# Altium footprint library PcbLib.PcbLib: 65 footprints (part 2 of 5)
Each footprint in its own frame and in the unit in brackets; x right, y up, seen from the top. Pads: shape width x height; smd on the part's side, far side on the other; paste and mask are expansions set on the pad; w line width, h text height; cw(c..) or ccw(c..) is an arc to the next point about the centre after c.
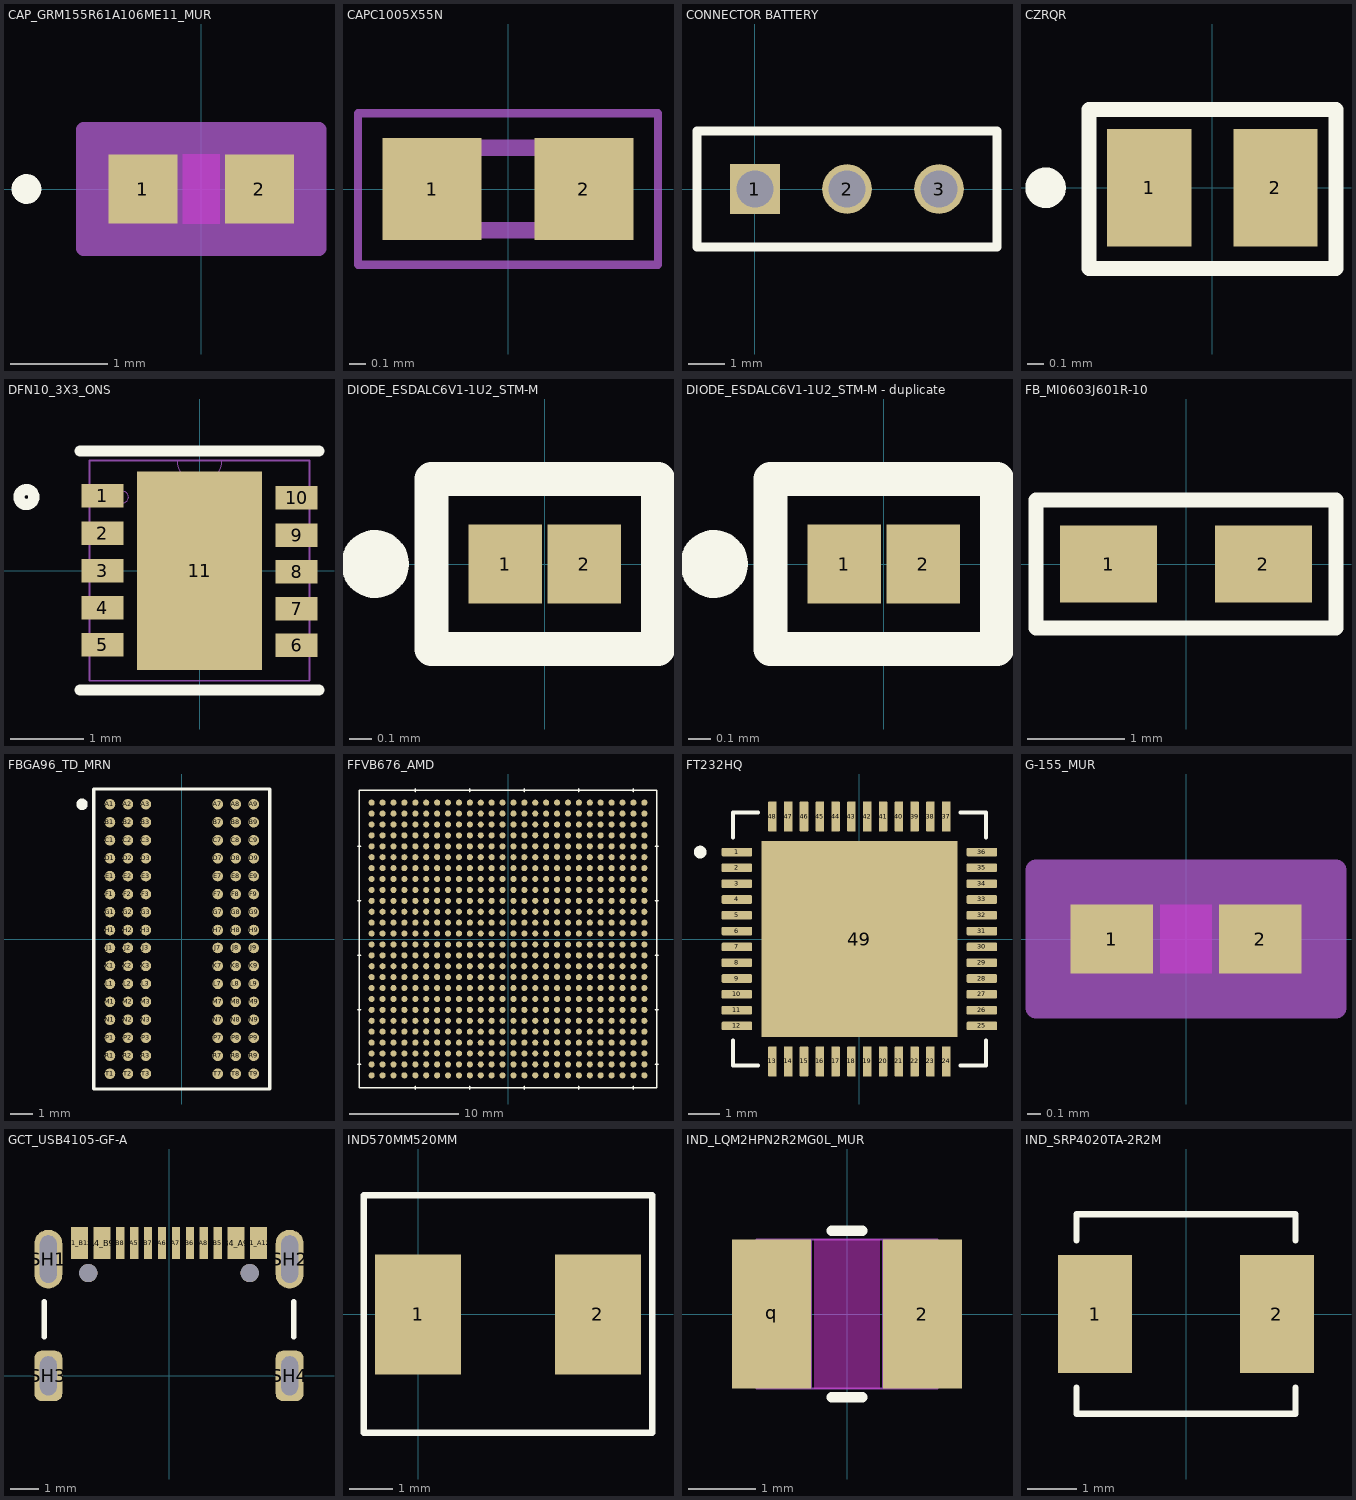
[diagram p1: the footprints below, top view; thin cyan lines are the x and y axes]

## CAP_GRM155R61A106ME11_MUR [mil]
pads (2):
  rect 28x28 smd paste+0 mask+0: 1(-23.5,0) 2(23.5,0)
Top Layer keep-out:
  region: -7.5,-12 -7.5,12 7.5,12 7.5,-12
Top Overlay:
  circle w6: c-70.5,0 r3
Keep-Out Layer:
  region: -7.5,-14 -7.5,14 7.5,14 7.5,-14
Mechanical 13:
  circle w0: c-18.5,0 r3
  lines w1: -23.5,-14 -23.5,14 ; -23.5,-14 -9.5,-14 -9.5,14 -23.5,14 ; -23.5,-14 23.5,-14 ; -23.5,-14 -23.5,14 ; -23.5,14 23.5,14 ; 23.5,-14 9.5,-14 9.5,14 23.5,14 ; 23.5,-14 23.5,14 ; 23.5,-14 23.5,14
Mechanical 15:
  region: 47.5,-24 -47.5,-24 -47.5,24 47.5,24
  lines w6: -47.5,-24 -47.5,24 47.5,24 47.5,-24 -47.5,-24
3D body "CAP_GRM155R61A106ME11_MUR.step": height 27.99, standoff 0, extent -23.5,-14.02 23.5,14.02

## CAPC1005X55N [mm]
pads (2):
  rect 0.6x0.62 smd: 1(-0.46,0) 2(0.46,0)
Mechanical 15:
  lines w0.1: -0.5,-0.25 0.5,-0.25 0.5,0.25 -0.5,0.25 -0.5,-0.25
Mechanical 20:
  lines w0.05: -0.91,-0.46 0.91,-0.46 0.91,0.46 -0.91,0.46 -0.91,-0.46

## CONNECTOR BATTERY [mm]
pads (3):
  rect 1.37x1.37 hole 1.02: 1(0,0)
  round 1.37 hole 1.02: 2(2.54,0) 3(5.08,0)
Top Overlay:
  lines w0.254: 6.667,-1.6 -1.6,-1.6 -1.6,1.6 6.667,1.6 ; 6.68,-1.6 6.68,1.6

## CZRQR [mm]
pads (2):
  rect 0.5x0.7 smd paste+0 mask+0: 1(-0.375,0) 2(0.375,0)
Top Overlay:
  circle w0.127: c-0.991,0 r0.057
  lines w0.089: -0.731,-0.478 0.735,-0.478 0.735,0.464 -0.731,0.464 -0.731,-0.478
3D body "CZRQR.step": height 0.56, standoff 0, extent -0.521,-0.33 0.521,0.33

## DFN10_3X3_ONS [mm]
pads (11):
  rect 0.57x0.32 smd paste+0 mask+0: 1(-1.321,1.016) 2(-1.321,0.508) 3(-1.321,0) 4(-1.321,-0.508) 5(-1.321,-1.008) 6(1.321,-1.017) 7(1.321,-0.517) 8(1.321,-0.017) 9(1.321,0.483) 10(1.321,0.991)
  rect 1.702x2.7 smd paste+0 mask+0: 11(0,0)
Top Overlay:
  circle w0.152: c-2.354,1 r0.102
  lines w0.152: -1.626,-1.626 1.626,-1.626 ; -1.626,1.626 1.626,1.626
Mechanical 13:
  circle w0: c-1.041,1 r0.076
  lines w0: -0.305,1.499 ccw(c0,1.499) 0.305,1.499
  lines w0.025: -1.499,-1.499 1.499,-1.499 1.499,1.499 -1.499,1.499 -1.499,-1.499
3D body "DFN10_3X3_ONS.step": height 0.99, standoff 0, extent -1.499,-1.499 1.499,1.499

## DIODE_ESDALC6V1-1U2_STM-M [mil]
pads (2):
  rect 13x14 smd paste+0 mask+0: 1(-7,0) 2(7,0)
Top Overlay:
  circle w6: c-30,0 r3
  lines w5.98: -20,-15 20,-15 20,15 -20,15
  lines w6: -20,-15 -20,15
3D body "DIODE_ESDALC6V1-1U2_STM.step": height 13.11, standoff 0, extent -12.99,-7.01 12.99,7.01

## DIODE_ESDALC6V1-1U2_STM-M - duplicate [mil]
pads (2):
  rect 13x14 smd paste+0 mask+0: 1(-7,0) 2(7,0)
Top Overlay:
  circle w6: c-30,0 r3
  lines w5.98: -20,-15 20,-15 20,15 -20,15
  lines w6: -20,-15 -20,15
3D body "DIODE_ESDALC6V1-1U2_STM.step": height 13.11, standoff 0, extent -12.99,-7.01 12.99,7.01

## FB_MI0603J601R-10 [mm]
pads (2):
  rect 1x0.8 smd: 1(-0.8,0) 2(0.8,0)
Top Overlay:
  lines w0.152: -1.524,0.635 -1.549,0.66 ; 1.524,0.66 1.549,0.635 1.549,-0.66 -1.549,-0.66 -1.549,0.66 ; 1.549,0.66 -1.549,0.66
3D body "step_temp.STEP": height 0.95, standoff 0, extent -0.8,-0.4 0.8,0.4

## FBGA96_TD_MRN [mm]
pads (96):
  round 0.47 smd: A1(-3.2,6) A2(-2.4,6) A3(-1.6,6) A7(1.6,6) A8(2.4,6) A9(3.2,6) B1(-3.2,5.2) B2(-2.4,5.2) B3(-1.6,5.2) B7(1.6,5.2) B8(2.4,5.2) B9(3.2,5.2) C1(-3.2,4.4) C2(-2.4,4.4) C3(-1.6,4.4) C7(1.6,4.4) C8(2.4,4.4) C9(3.2,4.4) D1(-3.2,3.6) D2(-2.4,3.6) D3(-1.6,3.6) D7(1.6,3.6) D8(2.4,3.6) D9(3.2,3.6) E1(-3.2,2.8) E2(-2.4,2.8) E3(-1.6,2.8) E7(1.6,2.8) E8(2.4,2.8) E9(3.2,2.8) F1(-3.2,2) F2(-2.4,2) F3(-1.6,2) F7(1.6,2) F8(2.4,2) F9(3.2,2) G1(-3.2,1.2) G2(-2.4,1.2) G3(-1.6,1.2) G7(1.6,1.2) G8(2.4,1.2) G9(3.2,1.2) H1(-3.2,0.4) H2(-2.4,0.4) H3(-1.6,0.4) H7(1.6,0.4) H8(2.4,0.4) H9(3.2,0.4) J1(-3.2,-0.4) J2(-2.4,-0.4) J3(-1.6,-0.4) J7(1.6,-0.4) J8(2.4,-0.4) J9(3.2,-0.4) K1(-3.2,-1.2) K2(-2.4,-1.2) K3(-1.6,-1.2) K7(1.6,-1.2) K8(2.4,-1.2) K9(3.2,-1.2) L1(-3.2,-2) L2(-2.4,-2) L3(-1.6,-2) L7(1.6,-2) L8(2.4,-2) L9(3.2,-2) M1(-3.2,-2.8) M2(-2.4,-2.8) M3(-1.6,-2.8) M7(1.6,-2.8) M8(2.4,-2.8) M9(3.2,-2.8) N1(-3.2,-3.6) N2(-2.4,-3.6) N3(-1.6,-3.6) N7(1.6,-3.6) N8(2.4,-3.6) N9(3.2,-3.6) P1(-3.2,-4.4) P2(-2.4,-4.4) P3(-1.6,-4.4) P7(1.6,-4.4) P8(2.4,-4.4) P9(3.2,-4.4) R1(-3.2,-5.2) R2(-2.4,-5.2) R3(-1.6,-5.2) R7(1.6,-5.2) R8(2.4,-5.2) R9(3.2,-5.2) T1(-3.2,-6) T2(-2.4,-6) T3(-1.6,-6) T7(1.6,-6) T8(2.4,-6) T9(3.2,-6)
Top Overlay:
  circle w0.254: c-4.445,6 r0.127
  lines w0.152: -3.924,-6.68 3.924,-6.68 3.924,6.68 -3.924,6.68 -3.924,-6.68
3D body "FBGA96_TD_MRN.step": height 1.2, standoff 0, extent -3.797,-6.553 3.797,6.553

## FFVB676_AMD [mm]
pads (676):
  round 0.559 smd paste+0 mask+0: A1(-12.5,12.5) A2(-11.5,12.5) A3(-10.5,12.5) A4(-9.5,12.5) A5(-8.5,12.5) A6(-7.5,12.5) A7(-6.5,12.5) A8(-5.5,12.5) A9(-4.5,12.5) A10(-3.5,12.5) A11(-2.5,12.5) A12(-1.5,12.5) A13(-0.5,12.5) A14(0.5,12.5) A15(1.5,12.5) A16(2.5,12.5) A17(3.5,12.5) A18(4.5,12.5) A19(5.5,12.5) A20(6.5,12.5) A21(7.5,12.5) A22(8.5,12.5) A23(9.5,12.5) A24(10.5,12.5) A25(11.5,12.5) A26(12.5,12.5) AA1(-12.5,-7.5) AA2(-11.5,-7.5) AA3(-10.5,-7.5) AA4(-9.5,-7.5) AA5(-8.5,-7.5) AA6(-7.5,-7.5) AA7(-6.5,-7.5) AA8(-5.5,-7.5) AA9(-4.5,-7.5) AA10(-3.5,-7.5) AA11(-2.5,-7.5) AA12(-1.5,-7.5) AA13(-0.5,-7.5) AA14(0.5,-7.5) AA15(1.5,-7.5) AA16(2.5,-7.5) AA17(3.5,-7.5) AA18(4.5,-7.5) AA19(5.5,-7.5) AA20(6.5,-7.5) AA21(7.5,-7.5) AA22(8.5,-7.5) AA23(9.5,-7.5) AA24(10.5,-7.5) AA25(11.5,-7.5) AA26(12.5,-7.5) AB1(-12.5,-8.5) AB2(-11.5,-8.5) AB3(-10.5,-8.5) AB4(-9.5,-8.5) AB5(-8.5,-8.5) AB6(-7.5,-8.5) AB7(-6.5,-8.5) AB8(-5.5,-8.5) AB9(-4.5,-8.5) AB10(-3.5,-8.5) AB11(-2.5,-8.5) AB12(-1.5,-8.5) AB13(-0.5,-8.5) AB14(0.5,-8.5) AB15(1.5,-8.5) AB16(2.5,-8.5) AB17(3.5,-8.5) AB18(4.5,-8.5) AB19(5.5,-8.5) AB20(6.5,-8.5) AB21(7.5,-8.5) AB22(8.5,-8.5) AB23(9.5,-8.5) AB24(10.5,-8.5) AB25(11.5,-8.5) AB26(12.5,-8.5) AC1(-12.5,-9.5) AC2(-11.5,-9.5) AC3(-10.5,-9.5) AC4(-9.5,-9.5) AC5(-8.5,-9.5) AC6(-7.5,-9.5) AC7(-6.5,-9.5) AC8(-5.5,-9.5) AC9(-4.5,-9.5) AC10(-3.5,-9.5) AC11(-2.5,-9.5) AC12(-1.5,-9.5) AC13(-0.5,-9.5) AC14(0.5,-9.5) AC15(1.5,-9.5) AC16(2.5,-9.5) AC17(3.5,-9.5) AC18(4.5,-9.5) AC19(5.5,-9.5) AC20(6.5,-9.5) AC21(7.5,-9.5) AC22(8.5,-9.5) AC23(9.5,-9.5) AC24(10.5,-9.5) AC25(11.5,-9.5) AC26(12.5,-9.5) AD1(-12.5,-10.5) AD2(-11.5,-10.5) AD3(-10.5,-10.5) AD4(-9.5,-10.5) AD5(-8.5,-10.5) AD6(-7.5,-10.5) AD7(-6.5,-10.5) AD8(-5.5,-10.5) AD9(-4.5,-10.5) AD10(-3.5,-10.5) AD11(-2.5,-10.5) AD12(-1.5,-10.5) AD13(-0.5,-10.5) AD14(0.5,-10.5) AD15(1.5,-10.5) AD16(2.5,-10.5) AD17(3.5,-10.5) AD18(4.5,-10.5) AD19(5.5,-10.5) AD20(6.5,-10.5) AD21(7.5,-10.5) AD22(8.5,-10.5) AD23(9.5,-10.5) AD24(10.5,-10.5) AD25(11.5,-10.5) AD26(12.5,-10.5) AE1(-12.5,-11.5) AE2(-11.5,-11.5) AE3(-10.5,-11.5) AE4(-9.5,-11.5) AE5(-8.5,-11.5) AE6(-7.5,-11.5) AE7(-6.5,-11.5) AE8(-5.5,-11.5) AE9(-4.5,-11.5) AE10(-3.5,-11.5) AE11(-2.5,-11.5) AE12(-1.5,-11.5) AE13(-0.5,-11.5) AE14(0.5,-11.5) AE15(1.5,-11.5) AE16(2.5,-11.5) AE17(3.5,-11.5) AE18(4.5,-11.5) AE19(5.5,-11.5) AE20(6.5,-11.5) AE21(7.5,-11.5) AE22(8.5,-11.5) AE23(9.5,-11.5) AE24(10.5,-11.5) AE25(11.5,-11.5) AE26(12.5,-11.5) AF1(-12.5,-12.5) AF2(-11.5,-12.5) AF3(-10.5,-12.5) AF4(-9.5,-12.5) AF5(-8.5,-12.5) AF6(-7.5,-12.5) AF7(-6.5,-12.5) AF8(-5.5,-12.5) AF9(-4.5,-12.5) AF10(-3.5,-12.5) AF11(-2.5,-12.5) AF12(-1.5,-12.5) AF13(-0.5,-12.5) AF14(0.5,-12.5) AF15(1.5,-12.5) AF16(2.5,-12.5) AF17(3.5,-12.5) AF18(4.5,-12.5) AF19(5.5,-12.5) AF20(6.5,-12.5) AF21(7.5,-12.5) AF22(8.5,-12.5) AF23(9.5,-12.5) AF24(10.5,-12.5) AF25(11.5,-12.5) AF26(12.5,-12.5) B1(-12.5,11.5) B2(-11.5,11.5) B3(-10.5,11.5) B4(-9.5,11.5) B5(-8.5,11.5) B6(-7.5,11.5) B7(-6.5,11.5) B8(-5.5,11.5) B9(-4.5,11.5) B10(-3.5,11.5) B11(-2.5,11.5) B12(-1.5,11.5) B13(-0.5,11.5) B14(0.5,11.5) B15(1.5,11.5) B16(2.5,11.5) B17(3.5,11.5) B18(4.5,11.5) B19(5.5,11.5) B20(6.5,11.5) B21(7.5,11.5) B22(8.5,11.5) B23(9.5,11.5) B24(10.5,11.5) B25(11.5,11.5) B26(12.5,11.5) C1(-12.5,10.5) C2(-11.5,10.5) C3(-10.5,10.5) C4(-9.5,10.5) C5(-8.5,10.5) C6(-7.5,10.5) C7(-6.5,10.5) C8(-5.5,10.5) C9(-4.5,10.5) C10(-3.5,10.5) C11(-2.5,10.5) C12(-1.5,10.5) C13(-0.5,10.5) C14(0.5,10.5) C15(1.5,10.5) C16(2.5,10.5) C17(3.5,10.5) C18(4.5,10.5) C19(5.5,10.5) C20(6.5,10.5) C21(7.5,10.5) C22(8.5,10.5) C23(9.5,10.5) C24(10.5,10.5) C25(11.5,10.5) C26(12.5,10.5) D1(-12.5,9.5) D2(-11.5,9.5) D3(-10.5,9.5) D4(-9.5,9.5) D5(-8.5,9.5) D6(-7.5,9.5) D7(-6.5,9.5) D8(-5.5,9.5) D9(-4.5,9.5) D10(-3.5,9.5) D11(-2.5,9.5) D12(-1.5,9.5) D13(-0.5,9.5) D14(0.5,9.5) D15(1.5,9.5) D16(2.5,9.5) D17(3.5,9.5) D18(4.5,9.5) D19(5.5,9.5) D20(6.5,9.5) D21(7.5,9.5) D22(8.5,9.5) D23(9.5,9.5) D24(10.5,9.5) D25(11.5,9.5) D26(12.5,9.5) E1(-12.5,8.5) E2(-11.5,8.5) E3(-10.5,8.5) E4(-9.5,8.5) E5(-8.5,8.5) E6(-7.5,8.5) E7(-6.5,8.5) E8(-5.5,8.5) E9(-4.5,8.5) E10(-3.5,8.5) E11(-2.5,8.5) E12(-1.5,8.5) E13(-0.5,8.5) E14(0.5,8.5) E15(1.5,8.5) E16(2.5,8.5) E17(3.5,8.5) E18(4.5,8.5) E19(5.5,8.5) E20(6.5,8.5) E21(7.5,8.5) E22(8.5,8.5) E23(9.5,8.5) E24(10.5,8.5) E25(11.5,8.5) E26(12.5,8.5) F1(-12.5,7.5) F2(-11.5,7.5) F3(-10.5,7.5) F4(-9.5,7.5) F5(-8.5,7.5) F6(-7.5,7.5) F7(-6.5,7.5) F8(-5.5,7.5) F9(-4.5,7.5) F10(-3.5,7.5) F11(-2.5,7.5) F12(-1.5,7.5) F13(-0.5,7.5) F14(0.5,7.5) F15(1.5,7.5) F16(2.5,7.5) F17(3.5,7.5) F18(4.5,7.5) F19(5.5,7.5) F20(6.5,7.5) F21(7.5,7.5) F22(8.5,7.5) F23(9.5,7.5) F24(10.5,7.5) F25(11.5,7.5) F26(12.5,7.5) G1(-12.5,6.5) G2(-11.5,6.5) G3(-10.5,6.5) G4(-9.5,6.5) G5(-8.5,6.5) G6(-7.5,6.5) G7(-6.5,6.5) G8(-5.5,6.5) G9(-4.5,6.5) G10(-3.5,6.5) G11(-2.5,6.5) G12(-1.5,6.5) G13(-0.5,6.5) G14(0.5,6.5) G15(1.5,6.5) G16(2.5,6.5) G17(3.5,6.5) G18(4.5,6.5) G19(5.5,6.5) G20(6.5,6.5) G21(7.5,6.5) G22(8.5,6.5) G23(9.5,6.5) G24(10.5,6.5) G25(11.5,6.5) G26(12.5,6.5) H1(-12.5,5.5) H2(-11.5,5.5) H3(-10.5,5.5) H4(-9.5,5.5) H5(-8.5,5.5) H6(-7.5,5.5) H7(-6.5,5.5) H8(-5.5,5.5) H9(-4.5,5.5) H10(-3.5,5.5) H11(-2.5,5.5) H12(-1.5,5.5) H13(-0.5,5.5) H14(0.5,5.5) H15(1.5,5.5) H16(2.5,5.5) H17(3.5,5.5) H18(4.5,5.5) H19(5.5,5.5) H20(6.5,5.5) H21(7.5,5.5) H22(8.5,5.5) H23(9.5,5.5) H24(10.5,5.5) H25(11.5,5.5) H26(12.5,5.5) J1(-12.5,4.5) J2(-11.5,4.5) J3(-10.5,4.5) J4(-9.5,4.5) J5(-8.5,4.5) J6(-7.5,4.5) J7(-6.5,4.5) J8(-5.5,4.5) J9(-4.5,4.5) J10(-3.5,4.5) J11(-2.5,4.5) J12(-1.5,4.5) J13(-0.5,4.5) J14(0.5,4.5) J15(1.5,4.5) J16(2.5,4.5) J17(3.5,4.5) J18(4.5,4.5) J19(5.5,4.5) J20(6.5,4.5) J21(7.5,4.5) J22(8.5,4.5) J23(9.5,4.5) J24(10.5,4.5) J25(11.5,4.5) J26(12.5,4.5) K1(-12.5,3.5) K2(-11.5,3.5) K3(-10.5,3.5) K4(-9.5,3.5) K5(-8.5,3.5) K6(-7.5,3.5) K7(-6.5,3.5) K8(-5.5,3.5) K9(-4.5,3.5) K10(-3.5,3.5) K11(-2.5,3.5) K12(-1.5,3.5) K13(-0.5,3.5) K14(0.5,3.5) K15(1.5,3.5) K16(2.5,3.5) K17(3.5,3.5) K18(4.5,3.5) K19(5.5,3.5) K20(6.5,3.5) K21(7.5,3.5) K22(8.5,3.5) K23(9.5,3.5) K24(10.5,3.5) K25(11.5,3.5) K26(12.5,3.5) L1(-12.5,2.5) L2(-11.5,2.5) L3(-10.5,2.5) L4(-9.5,2.5) L5(-8.5,2.5) L6(-7.5,2.5) L7(-6.5,2.5) L8(-5.5,2.5) L9(-4.5,2.5) L10(-3.5,2.5) L11(-2.5,2.5) L12(-1.5,2.5) L13(-0.5,2.5) L14(0.5,2.5) L15(1.5,2.5) L16(2.5,2.5) L17(3.5,2.5) L18(4.5,2.5) L19(5.5,2.5) L20(6.5,2.5) L21(7.5,2.5) L22(8.5,2.5) L23(9.5,2.5) L24(10.5,2.5) L25(11.5,2.5) L26(12.5,2.5) M1(-12.5,1.5) M2(-11.5,1.5) M3(-10.5,1.5) M4(-9.5,1.5) M5(-8.5,1.5) M6(-7.5,1.5) M7(-6.5,1.5) M8(-5.5,1.5) M9(-4.5,1.5) M10(-3.5,1.5) M11(-2.5,1.5) M12(-1.5,1.5) M13(-0.5,1.5) M14(0.5,1.5) M15(1.5,1.5) M16(2.5,1.5) M17(3.5,1.5) M18(4.5,1.5) M19(5.5,1.5) M20(6.5,1.5) M21(7.5,1.5) M22(8.5,1.5) M23(9.5,1.5) M24(10.5,1.5) M25(11.5,1.5) M26(12.5,1.5) N1(-12.5,0.5) N2(-11.5,0.5) N3(-10.5,0.5) N4(-9.5,0.5) N5(-8.5,0.5) N6(-7.5,0.5) N7(-6.5,0.5) N8(-5.5,0.5) N9(-4.5,0.5) N10(-3.5,0.5) N11(-2.5,0.5) N12(-1.5,0.5) N13(-0.5,0.5) N14(0.5,0.5) N15(1.5,0.5) N16(2.5,0.5) N17(3.5,0.5) N18(4.5,0.5) N19(5.5,0.5) N20(6.5,0.5) N21(7.5,0.5) N22(8.5,0.5) N23(9.5,0.5) N24(10.5,0.5) N25(11.5,0.5) N26(12.5,0.5) P1(-12.5,-0.5) P2(-11.5,-0.5) P3(-10.5,-0.5) P4(-9.5,-0.5) P5(-8.5,-0.5) P6(-7.5,-0.5) P7(-6.5,-0.5) P8(-5.5,-0.5) P9(-4.5,-0.5) P10(-3.5,-0.5) P11(-2.5,-0.5) P12(-1.5,-0.5) P13(-0.5,-0.5) P14(0.5,-0.5) P15(1.5,-0.5) P16(2.5,-0.5) P17(3.5,-0.5) P18(4.5,-0.5) P19(5.5,-0.5) P20(6.5,-0.5) P21(7.5,-0.5) P22(8.5,-0.5) P23(9.5,-0.5) P24(10.5,-0.5) P25(11.5,-0.5) P26(12.5,-0.5) R1(-12.5,-1.5) R2(-11.5,-1.5) R3(-10.5,-1.5) R4(-9.5,-1.5) R5(-8.5,-1.5) R6(-7.5,-1.5) R7(-6.5,-1.5) R8(-5.5,-1.5) R9(-4.5,-1.5) R10(-3.5,-1.5) R11(-2.5,-1.5) R12(-1.5,-1.5) R13(-0.5,-1.5) R14(0.5,-1.5) R15(1.5,-1.5) R16(2.5,-1.5) R17(3.5,-1.5) R18(4.5,-1.5) R19(5.5,-1.5) R20(6.5,-1.5) R21(7.5,-1.5) R22(8.5,-1.5) R23(9.5,-1.5) R24(10.5,-1.5) R25(11.5,-1.5) R26(12.5,-1.5) T1(-12.5,-2.5) T2(-11.5,-2.5) T3(-10.5,-2.5) T4(-9.5,-2.5) T5(-8.5,-2.5) T6(-7.5,-2.5) T7(-6.5,-2.5) T8(-5.5,-2.5) T9(-4.5,-2.5) T10(-3.5,-2.5) T11(-2.5,-2.5) T12(-1.5,-2.5) T13(-0.5,-2.5) T14(0.5,-2.5) T15(1.5,-2.5) T16(2.5,-2.5) T17(3.5,-2.5) T18(4.5,-2.5) T19(5.5,-2.5) T20(6.5,-2.5) T21(7.5,-2.5) T22(8.5,-2.5) T23(9.5,-2.5) T24(10.5,-2.5) T25(11.5,-2.5) T26(12.5,-2.5) U1(-12.5,-3.5) U2(-11.5,-3.5) U3(-10.5,-3.5) U4(-9.5,-3.5) U5(-8.5,-3.5) U6(-7.5,-3.5) U7(-6.5,-3.5) U8(-5.5,-3.5) U9(-4.5,-3.5) U10(-3.5,-3.5) U11(-2.5,-3.5) U12(-1.5,-3.5) U13(-0.5,-3.5) U14(0.5,-3.5) U15(1.5,-3.5) U16(2.5,-3.5) U17(3.5,-3.5) U18(4.5,-3.5) U19(5.5,-3.5) U20(6.5,-3.5) U21(7.5,-3.5) U22(8.5,-3.5) U23(9.5,-3.5) U24(10.5,-3.5) U25(11.5,-3.5) U26(12.5,-3.5) V1(-12.5,-4.5) V2(-11.5,-4.5) V3(-10.5,-4.5) V4(-9.5,-4.5) V5(-8.5,-4.5) V6(-7.5,-4.5) V7(-6.5,-4.5) V8(-5.5,-4.5) V9(-4.5,-4.5) V10(-3.5,-4.5) V11(-2.5,-4.5) V12(-1.5,-4.5) V13(-0.5,-4.5) V14(0.5,-4.5) V15(1.5,-4.5) V16(2.5,-4.5) V17(3.5,-4.5) V18(4.5,-4.5) V19(5.5,-4.5) V20(6.5,-4.5) V21(7.5,-4.5) V22(8.5,-4.5) V23(9.5,-4.5) V24(10.5,-4.5) V25(11.5,-4.5) V26(12.5,-4.5) W1(-12.5,-5.5) W2(-11.5,-5.5) W3(-10.5,-5.5) W4(-9.5,-5.5) W5(-8.5,-5.5) W6(-7.5,-5.5) W7(-6.5,-5.5) W8(-5.5,-5.5) W9(-4.5,-5.5) W10(-3.5,-5.5) W11(-2.5,-5.5) W12(-1.5,-5.5) W13(-0.5,-5.5) W14(0.5,-5.5) W15(1.5,-5.5) W16(2.5,-5.5) W17(3.5,-5.5) W18(4.5,-5.5) W19(5.5,-5.5) W20(6.5,-5.5) W21(7.5,-5.5) W22(8.5,-5.5) W23(9.5,-5.5) W24(10.5,-5.5) W25(11.5,-5.5) W26(12.5,-5.5) Y1(-12.5,-6.5) Y2(-11.5,-6.5) Y3(-10.5,-6.5) Y4(-9.5,-6.5) Y5(-8.5,-6.5) Y6(-7.5,-6.5) Y7(-6.5,-6.5) Y8(-5.5,-6.5) Y9(-4.5,-6.5) Y10(-3.5,-6.5) Y11(-2.5,-6.5) Y12(-1.5,-6.5) Y13(-0.5,-6.5) Y14(0.5,-6.5) Y15(1.5,-6.5) Y16(2.5,-6.5) Y17(3.5,-6.5) Y18(4.5,-6.5) Y19(5.5,-6.5) Y20(6.5,-6.5) Y21(7.5,-6.5) Y22(8.5,-6.5) Y23(9.5,-6.5) Y24(10.5,-6.5) Y25(11.5,-6.5) Y26(12.5,-6.5)
Top Overlay:
  lines w0.152: -13.754,-11.5 -13.5,-11.5 ; -13.754,-6.5 -13.5,-6.5 ; -13.754,-1.5 -13.5,-1.5 ; -13.754,3.5 -13.5,3.5 ; -13.754,8.5 -13.5,8.5 ; -8.5,-13.754 -8.5,-13.5 ; -8.5,13.5 -8.5,13.754 ; -3.5,-13.754 -3.5,-13.5 ; -3.5,13.5 -3.5,13.754 ; 1.5,-13.754 1.5,-13.5 ; 1.5,13.5 1.5,13.754 ; 6.5,-13.754 6.5,-13.5 ; 6.5,13.5 6.5,13.754 ; 11.5,-13.754 11.5,-13.5 ; 11.5,13.5 11.5,13.754 ; 13.5,-11.5 13.754,-11.5 ; 13.5,-6.5 13.754,-6.5 ; 13.5,-1.5 13.754,-1.5 ; 13.5,3.5 13.754,3.5 ; 13.5,8.5 13.754,8.5 ; -13.627,-13.627 13.627,-13.627 13.627,13.627 -13.627,13.627 -13.627,-13.627
3D body "FFVB676_AMD.step": height 3.53, standoff 0, extent -13.5,-13.5 13.5,13.5

## FT232HQ [mm] "done"
pads (49):
  rrect25% 0.96x0.27 smd: 1(-3.875,2.75) 2(-3.875,2.25) 3(-3.875,1.75) 4(-3.875,1.25) 5(-3.875,0.75) 6(-3.875,0.25) 7(-3.875,-0.25) 8(-3.875,-0.75) 9(-3.875,-1.25) 10(-3.875,-1.75) 11(-3.875,-2.25) 12(-3.875,-2.75) 25(3.875,-2.75) 26(3.875,-2.25) 27(3.875,-1.75) 28(3.875,-1.25) 29(3.875,-0.75) 30(3.875,-0.25) 31(3.875,0.25) 32(3.875,0.75) 33(3.875,1.25) 34(3.875,1.75) 35(3.875,2.25) 36(3.875,2.75)
  rrect25% 0.27x0.96 smd: 13(-2.75,-3.875) 14(-2.25,-3.875) 15(-1.75,-3.875) 16(-1.25,-3.875) 17(-0.75,-3.875) 18(-0.25,-3.875) 19(0.25,-3.875) 20(0.75,-3.875) 21(1.25,-3.875) 22(1.75,-3.875) 23(2.25,-3.875) 24(2.75,-3.875) 37(2.75,3.875) 38(2.25,3.875) 39(1.75,3.875) 40(1.25,3.875) 41(0.75,3.875) 42(0.25,3.875) 43(-0.25,3.875) 44(-0.75,3.875) 45(-1.25,3.875) 46(-1.75,3.875) 47(-2.25,3.875) 48(-2.75,3.875)
  rect 6.2x6.2 smd paste-2.445: 49(0,0)
Top Overlay:
  circle w0.2: c-5.035,2.75 r0.1
  lines w0.127: -4,-3.205 -4,-4 -3.205,-4 ; -4,3.205 -4,4 -3.205,4 ; 3.205,-4 4,-4 4,-3.205 ; 3.205,4 4,4 4,3.205
Top Paste:
  region: 0.655,1.415 -0.655,1.415 -0.655,2.725 0.655,2.725
  region: 0.655,-2.725 -0.655,-2.725 -0.655,-1.415 0.655,-1.415
  region: 2.725,-2.725 1.415,-2.725 1.415,-1.415 2.725,-1.415
  region: -1.415,-2.725 -2.725,-2.725 -2.725,-1.415 -1.415,-1.415
  region: -1.415,-0.655 -2.725,-0.655 -2.725,0.655 -1.415,0.655
  region: -1.415,1.415 -2.725,1.415 -2.725,2.725 -1.415,2.725
  region: 2.725,1.415 1.415,1.415 1.415,2.725 2.725,2.725
  region: 2.725,-0.655 1.415,-0.655 1.415,0.655 2.725,0.655
3D body "QFN48_FT232HQ_FTD.step": height 0.89, standoff 0, extent -4,-3.979 4,4.021

## G-155_MUR [mil]
pads (2):
  rect 24x20 smd paste+0 mask+0: 1(-21.5,0) 2(21.5,0)
Top Layer keep-out:
  region: -7.5,-8 -7.5,8 7.5,8 7.5,-8
Keep-Out Layer:
  region: -7.5,-10 -7.5,10 7.5,10 7.5,-10
Mechanical 13:
  lines w1: -19.5,-10 -19.5,10 ; -19.5,-10 19.5,-10 ; -19.5,-10 -9.5,-10 -9.5,10 -19.5,10 ; -19.5,-10 -19.5,10 ; -19.5,10 19.5,10 ; 19.5,-10 19.5,10 ; 19.5,-10 19.5,10 ; 19.5,-10 9.5,-10 9.5,10 19.5,10
Mechanical 15:
  region: 43.5,-20 -43.5,-20 -43.5,20 43.5,20
  lines w6: -43.5,-20 43.5,-20 43.5,20 -43.5,20 -43.5,-20
3D body "G-155_MUR.step": height 22.01, standoff 0, extent -19.49,-10 19.49,10

## GCT_USB4105-GF-A [mm]
height 3.31
pads (18):
  rect 0.6x1.15 smd: A1_B12(-3.2,4.755) A4_B9(-2.4,4.755) B1_A12(3.2,4.755) B4_A9(2.4,4.755)
  rect 0.3x1.15 smd: A5(-1.25,4.755) A6(-0.25,4.755) A7(0.25,4.755) A8(1.25,4.755) B5(1.75,4.755) B6(0.75,4.755) B7(-0.75,4.755) B8(-1.75,4.755)
  oval 1x2.1 hole 0.6 slot 1.7 at 90 deg: SH1(-4.32,4.18) SH2(4.32,4.18)
  rrect50% 1x1.8 hole 0.6 slot 1.4 at 90 deg: SH3(-4.32,0) SH4(4.32,0)
  round 0.65 hole 0.65 unplated: ""(-2.89,3.68) ""(2.89,3.68)
Top Overlay:
  lines w0.2: -4.47,1.4 -4.47,2.65 ; 4.47,1.4 4.47,2.65
3D body "USB4105-GF-A.step": height 3.31, standoff -1.1, extent -4.479,-2.627 4.461,5.083

## IND570MM520MM [mm]
pads (2):
  rect 2x2.8 smd: 1(0,0) 2(4.191,0)
Top Overlay:
  lines w0.152: -1.27,-2.757 5.461,-2.757 5.461,2.777 -1.27,2.777 -1.27,-2.757
3D body "SRP5015TA.stp": height 1.3, standoff -0.01, extent -0.742,-2.6 4.958,2.6

## IND_LQM2HPN2R2MG0L_MUR [mil]
pads (2):
  rect 46x87 smd paste+0 mask+0: 2(44,0) q(-44,0)
Top Layer keep-out:
  region: -19,-41.5 -19,41.5 19,41.5 19,-41.5
Top Overlay:
  lines w6: -8.89,-48.5 8.89,-48.5 ; -8.89,48.5 8.89,48.5
Keep-Out Layer:
  region: -19,-43.5 -19,43.5 19,43.5 19,-43.5
Mechanical 13:
  lines w1: -53,-43.5 -53,43.5 ; -53,-43.5 53,-43.5 ; -53,-43.5 -21,-43.5 -21,43.5 -53,43.5 ; -53,-43.5 -53,43.5 ; -53,43.5 53,43.5 ; 53,-43.5 53,43.5 ; 53,-43.5 53,43.5 ; 53,-43.5 21,-43.5 21,43.5 53,43.5
3D body "IND_LQM2HPN2R2MG0L_MUR.step": height 39.02, standoff 0, extent -52.99,-43.5 52.99,43.5

## IND_SRP4020TA-2R2M [mm]
pads (2):
  rect 1.5x2.4 smd: 1(-1.85,0) 2(1.85,0)
Top Overlay:
  lines w0.127: -2.225,-1.5 -2.225,-2.03 2.225,-2.03 2.225,-1.5 ; -2.225,1.5 -2.225,2.03 2.225,2.03 2.225,1.5
3D body "step_temp.STEP": height 2, standoff 0, extent -2.225,-2.03 2.225,2.03